# Altium schematic symbol library TPS2554.SchLib: 1 symbol
Pins are listed as number, name and electrical type; pins without a type are passive.

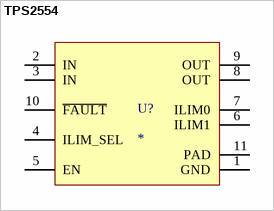
[diagram p0: symbol TPS2554]

## TPS2554
designator U?
pins: 1 GND, 2 IN, 3 IN, 4 ILIM_SEL, 5 EN, 6 ILIM1, 7 ILIM0, 8 OUT, 9 OUT, 10 ~{FAULT}, 11 PAD